# EAGLE library part USB-MINIB (library dl)
USB-MiniB-Buchse
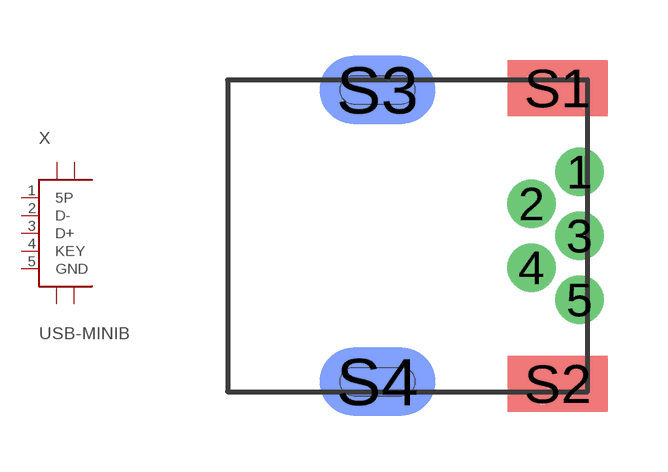
[diagram p4: symbol with the pads of USB-DB; footprint USB-DB]

Designator prefix X

## USB-MINIB-DB  [USB-DB]
1  5P  sup
2  D-
3  D+
4  KEY  oc
5  GND  sup
S1  GND  pwr
S2  GND  pwr
S3  GND  pwr
S4  GND  pwr

## Footprint USB-DB (pad centres in mm)
USB-MiniB-Buchse Durchsteck Assmann USB-BWM.pdf Reichelt: USB BWM 0,49€
drill 0.7 round: 1 8.8,1.6; 2 7.6,0.8; 3 8.8,0; 4 7.6,-0.8; 5 8.8,-1.6
smd 2.5 x 1.4: S1 8.25,3.7; S2 8.25,-3.7
smd 2.9 x 1.7 bottom: S3 3.75,3.65; S4 3.75,-3.65